# EAGLE library part 87340-08 (library con-molex-milli-grid)
RECEPTACAL
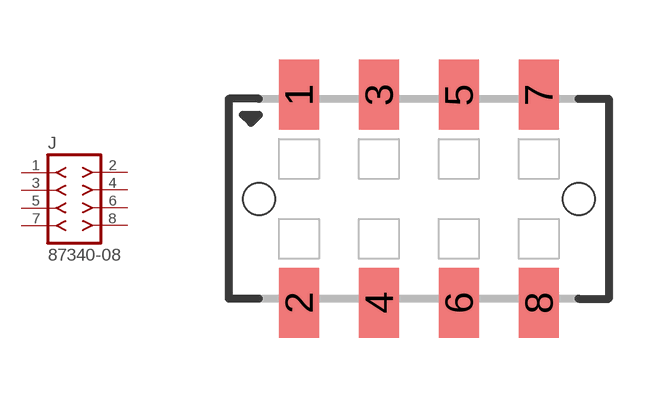
[diagram p228: symbol with the pads of 87340-08; footprint 87340-08]

Designator prefix J

## 87340-08  [87340-08]
1  1  pas
2  2  pas
3  3  pas
4  4  pas
5  5  pas
6  6  pas
7  7  pas
8  8  pas

## Footprint 87340-08 (pad centres in mm)
RECEPTACAL SMD Dual Row, Vertical, Low Profile
smd 1 x 1.75: 1 -3,2.6; 2 -3,-2.6; 3 -1,2.6; 4 -1,-2.6; 5 1,2.6; 6 1,-2.6; 7 3,2.6; 8 3,-2.6
hole 0.8 at -4,0
hole 0.8 at 4,0